# Altium schematic symbol library 2019-08-02_06-34-07.SchLib: 2 symbols
Pins are listed as number, name and electrical type; pins without a type are passive.

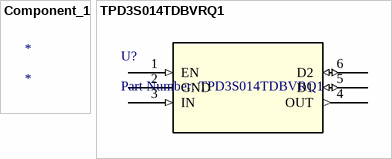
[diagram p0: symbols Component_1 to TPD3S014TDBVRQ1]

## Component_1
designator *

## TPD3S014TDBVRQ1
designator U?, comment Part Number: TPD3S014TDBVRQ1
No Description Available; Vendor: Texas Instruments; Built_By: EMA_UL_Team; Manufacturer_Part_Number: TPD3S014TDBVRQ1; Copyright: Copyright (C) 2018 Accelerated Designs. All rights reserved; RefDes: RefDes; Type: DEV; Value: Value
footprint DBV6
pins: 1 EN (in), 2 GND (power), 3 IN (in), 4 OUT (out), 5 D1 (io), 6 D2 (io)